# Altium footprint library HVPSlibrary.PcbLib: 149 footprints (part 9 of 11)
Each footprint in its own frame and in the unit in brackets; x right, y up, seen from the top. Pads: shape width x height; smd on the part's side, far side on the other; paste and mask are expansions set on the pad; w line width, h text height; cw(c..) or ccw(c..) is an arc to the next point about the centre after c.
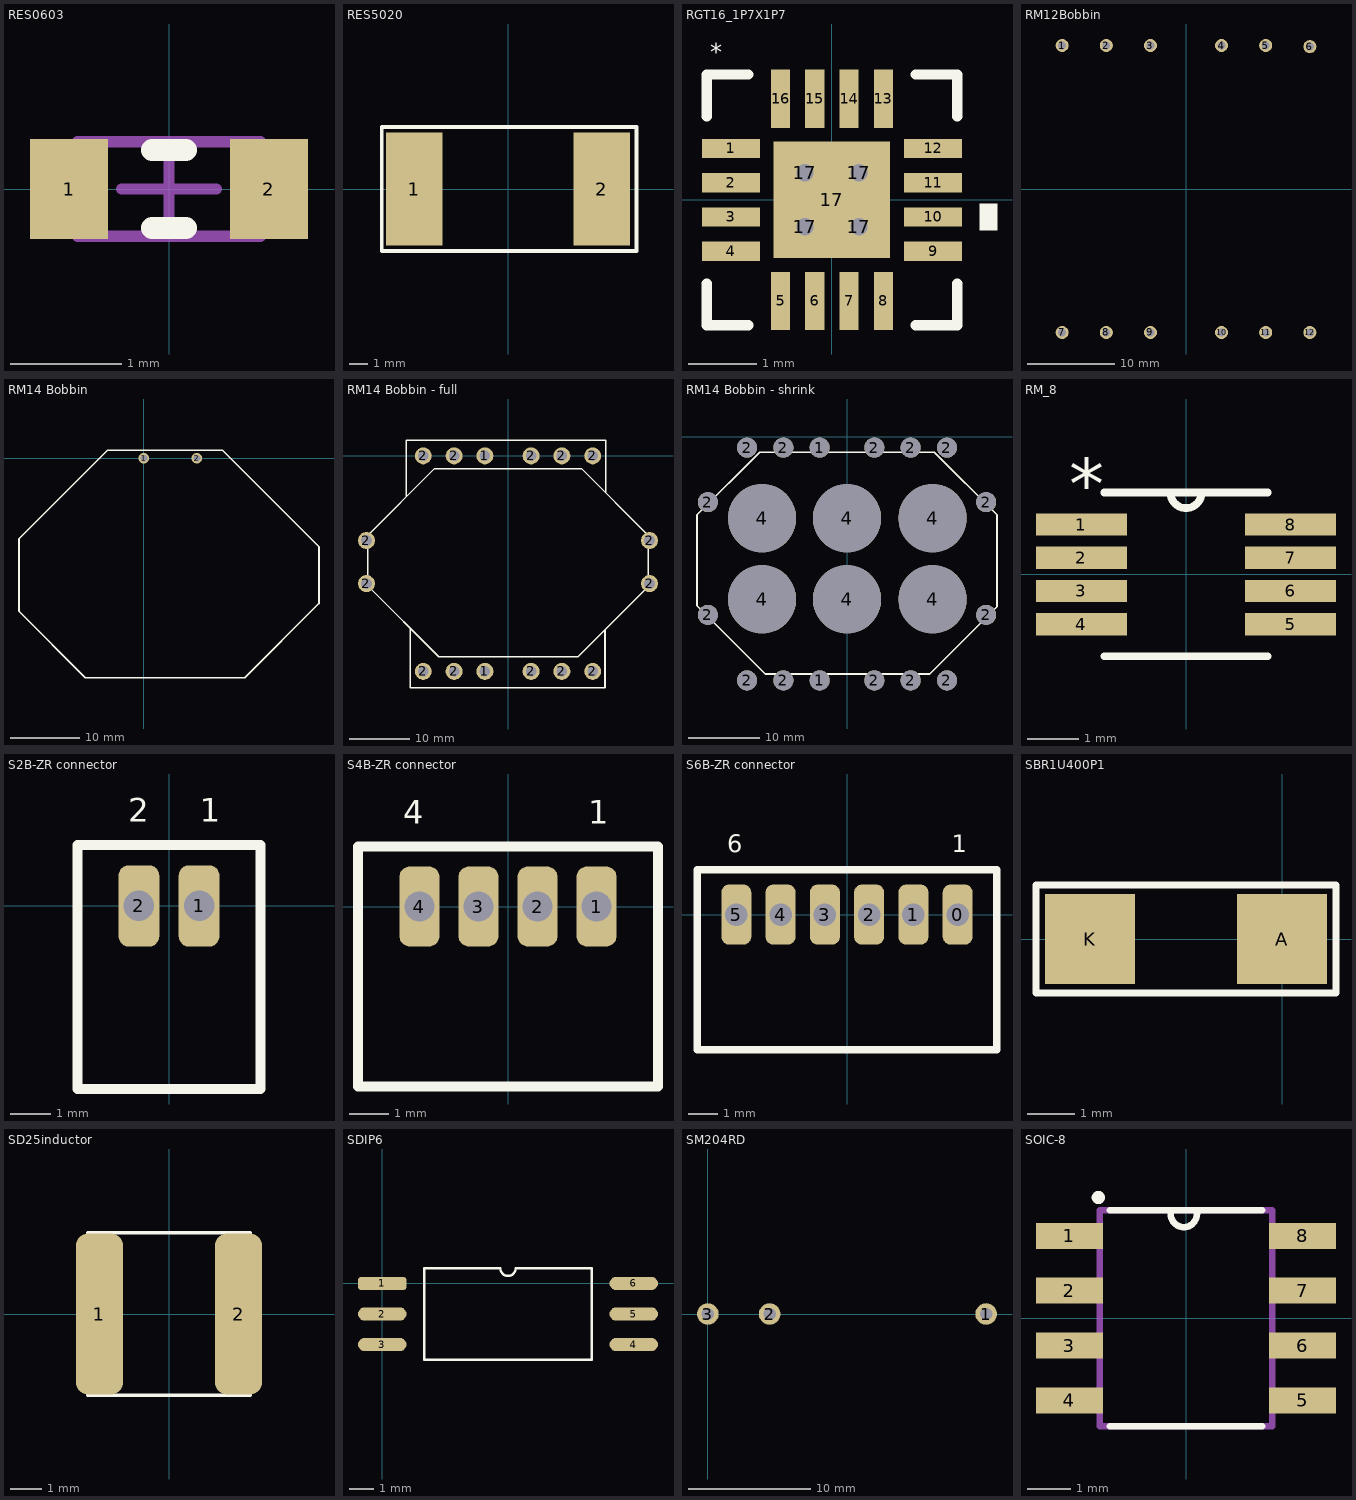
[diagram p8: the footprints below, top view; thin cyan lines are the x and y axes]

## RES0603 [mm] "Chip Resistor, 2-Leads, Body 1.6x0.8mm, IPC Medium Density"
height 0.8
pads (2):
  rect 0.7x0.9 smd: 1(-0.9,0) 2(0.9,0)
Top Overlay:
  lines w0.2: -0.15,-0.35 0.15,-0.35 ; -0.15,0.35 0.15,0.35
Mechanical 13:
  lines w0.1: -0.825,-0.425 0.825,-0.425 0.825,0.425 -0.825,0.425 -0.825,-0.425
Mechanical 15:
  lines w0.1: -0.425,0 0.425,0 ; 0,-0.425 0,0.425
3D body: height 0.8, standoff 0, extent -0.825,-0.425 0.825,0.425

## RES5020 [mm]
pads (2):
  rect 3x6 smd: 1(-5,0) 2(5,0)
Top Overlay:
  lines w0.2: -6.731,-3.302 -6.731,-0.731 -6.731,3.302 6.858,3.302 6.858,-3.302 -6.731,-3.302

## RGT16_1P7X1P7 [mm]
pads (21):
  rect 0.85x0.28 smd paste-0.14: 1(-1.475,0.75) 2(-1.475,0.25) 3(-1.475,-0.25) 4(-1.475,-0.75) 9(1.475,-0.75) 10(1.475,-0.25) 11(1.475,0.25) 12(1.475,0.75)
  rect 0.28x0.85 smd paste-0.14: 5(-0.75,-1.475) 6(-0.25,-1.475) 7(0.25,-1.475) 8(0.75,-1.475) 13(0.75,1.475) 14(0.25,1.475) 15(-0.25,1.475) 16(-0.75,1.475)
  round 0.508 / inner round 1.524 / far side round 0.508 hole 0.254: 17(-0.394,-0.394) 17(-0.394,0.394) 17(0.394,-0.394) 17(0.394,0.394)
  rect 1.7x1.7 smd paste-0.837 mask-0.838: 17(0,0)
Top Overlay:
  region: 2.154,-0.059 2.408,-0.059 2.408,-0.44 2.154,-0.44
  lines w0.152: -1.829,-1.223 -1.829,-1.829 -1.223,-1.829 ; -1.829,1.223 -1.829,1.829 -1.223,1.829 ; 1.223,-1.829 1.829,-1.829 1.829,-1.223 ; 1.223,1.829 1.829,1.829 1.829,1.223
  text "*" at -1.778,2.032 h0.25
Top Paste:
  region: -1.075,0.865 -1.875,0.865 -1.875,0.635 -1.075,0.635
  region: -1.075,0.365 -1.875,0.365 -1.875,0.135 -1.075,0.135
  region: -1.075,-0.135 -1.875,-0.135 -1.875,-0.365 -1.075,-0.365
  region: -1.075,-0.635 -1.875,-0.635 -1.875,-0.865 -1.075,-0.865
  region: -0.635,-1.075 -0.865,-1.075 -0.865,-1.875 -0.635,-1.875
  region: -0.135,-1.075 -0.365,-1.075 -0.365,-1.875 -0.135,-1.875
  region: 0.365,-1.075 0.135,-1.075 0.135,-1.875 0.365,-1.875
  region: 0.865,-1.075 0.635,-1.075 0.635,-1.875 0.865,-1.875
  region: 1.875,-0.635 1.075,-0.635 1.075,-0.865 1.875,-0.865
  region: 1.875,-0.135 1.075,-0.135 1.075,-0.365 1.875,-0.365
  region: 1.875,0.365 1.075,0.365 1.075,0.135 1.875,0.135
  region: 1.875,0.865 1.075,0.865 1.075,0.635 1.875,0.635
  region: 0.865,1.875 0.635,1.875 0.635,1.075 0.865,1.075
  region: 0.365,1.875 0.135,1.875 0.135,1.075 0.365,1.075
  region: -0.135,1.875 -0.365,1.875 -0.365,1.075 -0.135,1.075
  region: -0.635,1.875 -0.865,1.875 -0.865,1.075 -0.635,1.075
  region: -0.494,0.775 -0.775,0.775 -0.775,0.494 -0.635,0.494 -0.494,0.635
  region: -0.635,0.294 -0.775,0.294 -0.775,-0.294 -0.635,-0.294 -0.494,-0.152 -0.494,0.152
  region: -0.635,-0.494 -0.775,-0.494 -0.775,-0.775 -0.494,-0.775 -0.494,-0.635
  region: 0.294,0.775 -0.294,0.775 -0.294,0.635 -0.152,0.494 0.152,0.494 0.294,0.635
  region: 0.152,0.294 -0.152,0.294 -0.294,0.152 -0.294,-0.152 -0.152,-0.294 0.152,-0.294 0.294,-0.152 0.294,0.152
  region: 0.152,-0.494 -0.152,-0.494 -0.294,-0.635 -0.294,-0.775 0.294,-0.775 0.294,-0.635
  region: 0.775,0.775 0.494,0.775 0.494,0.635 0.635,0.494 0.775,0.494
  region: 0.775,0.294 0.635,0.294 0.494,0.152 0.494,-0.152 0.635,-0.294 0.775,-0.294
  region: 0.775,-0.494 0.635,-0.494 0.494,-0.635 0.494,-0.775 0.775,-0.775
Top Solder:
  region: -0.98,0.96 -1.97,0.96 -1.97,0.54 -0.98,0.54
  region: -0.98,0.46 -1.97,0.46 -1.97,0.04 -0.98,0.04
  region: -0.98,-0.04 -1.97,-0.04 -1.97,-0.46 -0.98,-0.46
  region: -0.98,-0.54 -1.97,-0.54 -1.97,-0.96 -0.98,-0.96
  region: -0.541,-0.98 -0.96,-0.98 -0.96,-1.97 -0.541,-1.97
  region: -0.04,-0.98 -0.46,-0.98 -0.46,-1.97 -0.04,-1.97
  region: 0.46,-0.98 0.04,-0.98 0.04,-1.97 0.46,-1.97
  region: 0.96,-0.98 0.541,-0.98 0.541,-1.97 0.96,-1.97
  region: 1.97,-0.54 0.98,-0.54 0.98,-0.96 1.97,-0.96
  region: 1.97,-0.04 0.98,-0.04 0.98,-0.46 1.97,-0.46
  region: 1.97,0.46 0.98,0.46 0.98,0.04 1.97,0.04
  region: 1.97,0.96 0.98,0.96 0.98,0.54 1.97,0.54
  region: 0.96,1.97 0.541,1.97 0.541,0.98 0.96,0.98
  region: 0.46,1.97 0.04,1.97 0.04,0.98 0.46,0.98
  region: -0.04,1.97 -0.46,1.97 -0.46,0.98 -0.04,0.98
  region: -0.541,1.97 -0.96,1.97 -0.96,0.98 -0.541,0.98
  region: -0.914,0.594 -0.914,0.914 0.914,0.914 0.914,0.594
  region: -0.914,-0.194 -0.914,0.194 0.914,0.194 0.914,-0.194
  region: -0.914,-0.914 -0.914,-0.594 0.914,-0.594 0.914,-0.914
  region: -0.914,-0.914 -0.914,0.914 -0.594,0.914 -0.594,-0.914
  region: 0.194,-0.914 0.194,0.914 -0.194,0.914 -0.194,-0.914
  region: 0.594,-0.914 0.594,0.914 0.914,0.914 0.914,-0.914
3D body: height 1, standoff 0, extent -1.626,-1.626 1.524,1.524

## RM12Bobbin [mm]
pads (12):
  round 1.5 hole 0.9: 1(-14.25,16.51) 2(-9.17,16.51) 3(-4.09,16.51) 4(4.09,16.51) 5(9.17,16.51) 6(14.25,16.383) 7(-14.25,-16.5) 8(-9.17,-16.5) 9(-4.09,-16.5) 10(4.09,-16.5) 11(9.17,-16.5) 12(14.25,-16.5)

## RM14 Bobbin [mil]
pads (2):
  round 60 hole 39.37: 1(0,0) 2(300,0)
Top Overlay:
  lines w10: -705,-865 -705,-455 -205,45 445,45 990,-500 990,-820 570,-1240 -330,-1240 -705,-865
3D body "RM14_ferrite.STEP": height 1181.1, standoff 0, extent -680.71,-1209.1 980.71,35

## RM14 Bobbin - full [mm]
pads (16):
  round 2.8 hole 1.75: 1(-3.81,-35.56) 1(-3.81,0) 2(-23.35,-21.07) 2(-23.35,-13.97) 2(-13.97,-35.56) 2(-13.97,0) 2(-8.89,-35.56) 2(-8.89,0) 2(3.81,-35.56) 2(3.81,0) 2(8.89,-35.56) 2(8.89,0) 2(13.97,-35.56) 2(13.97,0) 2(23.35,-21.07) 2(23.35,-13.97)
Top Overlay:
  lines w0.254: -16.764,-6.731 -16.764,2.54 16.129,2.54 16.129,-5.969 ; -16.129,-28.448 -16.129,-38.227 16.002,-38.227 16.002,-28.702 ; -23.114,-21.463 -23.114,-13.081 -12.192,-2.159 12.192,-2.159 23.114,-13.081 23.114,-21.59 11.557,-33.147 -11.43,-33.147 -23.114,-21.463
3D body "RM14_assemble_SelfMade.STEP": height 29.98, standoff -3.92, extent -21.1,-38.46 21.1,2.54

## RM14 Bobbin - shrink [mm]
pads (22):
  round 2.8 hole 2.8: 1(-3.81,-34.036) 1(-3.81,-1.524) 2(-19.431,-24.892) 2(-19.431,-9.144) 2(-13.97,-34.036) 2(-13.97,-1.524) 2(-8.89,-34.036) 2(-8.89,-1.524) 2(3.81,-34.036) 2(3.81,-1.524) 2(8.89,-34.036) 2(8.89,-1.524) 2(13.97,-34.036) 2(13.97,-1.524) 2(19.431,-24.892) 2(19.431,-9.144)
  round 9.525 hole 9.525: 4(-11.862,-22.708) 4(-11.862,-11.379) 4(0,-22.708) 4(0,-11.379) 4(11.963,-22.708) 4(11.963,-11.379)
Top Overlay:
  lines w0.254: -20.955,-23.622 -20.955,-10.922 -12.192,-2.159 12.192,-2.159 20.955,-10.922 20.955,-23.749 11.557,-33.147 -11.43,-33.147 -20.955,-23.622
3D body "RM14_assemble_SelfMade.STEP": height 29.98, standoff -3.92, extent -21.1,-38.46 21.1,2.54

## RM_8 [mil]
pads (8):
  rect 70x17 smd: 1(-80.5,38.39) 2(-80.5,12.8) 3(-80.5,-12.8) 4(-80.5,-38.39) 5(80.5,-38.39) 6(80.5,-12.8) 7(80.5,12.8) 8(80.5,38.39)
Top Overlay:
  lines w6: -63,-63 63,-63 ; -63,63 63,63 ; -12,63 ccw(c0,63) 12,63
  text "*" at -90,50 h39.37
Mechanical 13:
  lines w0: -12,63 ccw(c0,63) 12,63
3D body: height 43.31, standoff 0, extent -65,-65 65,65

## S2B-ZR connector [mil] "2 pin JST ZH connector"
pads (2):
  rrect50% 40x80 hole 30: 1(29.53,0) 2(-29.53,0)
Top Overlay:
  lines w10: -90,-180 -90,60 90,60 90,-180 -90,-180
  text "2" at -40,75 h40
  text "1" at 30,75 h40
Bottom Overlay:
  lines w10: -90,-180 -90,60 90,60 90,-180 -90,-180
  text "2" at -40,75 h40
  text "1" at 30,75 h40
3D body "02ZR-8M-P.STEP": height 141.73, standoff 19.68, extent -87.16,-210 90,-36.77
3D body "S2B-ZR.STEP": height 157.48, standoff -94.49, extent -87.16,-183.11 90,53.11

## S4B-ZR connector [mil] "4 pin JST ZH connector"
pads (4):
  rrect50% 40x80 hole 30: 1(88.58,0) 2(29.53,0) 3(-29.53,0) 4(-88.58,0)
Top Overlay:
  lines w10: -150,-180 -150,60 150,60 150,-180 -150,-180
  text "4" at -105,75 h40
  text "1" at 80,75 h40
Bottom Overlay:
  lines w10: -150,-180 -150,60 150,60 150,-180 -150,-180
  text "4" at -105,75 h40
  text "1" at 80,75 h40
3D body "04ZR-8M-P.STEP": height 141.73, standoff 19.68, extent -150.28,-211.61 145,-38.39
3D body "S4B-ZR.STEP": height 157.48, standoff -94.49, extent -147.64,-180 147.64,56.22

## S6B-ZR connector [mil] "6pin JST ZH connector"
pads (6):
  rrect50% 40x80 hole 30: 0(147.64,0) 1(88.58,0) 2(29.53,0) 3(-29.53,0) 4(-88.58,0) 5(-147.64,0)
Top Overlay:
  lines w10: -200,-180 -200,60 200,60 200,-180 -200,-180
  text "1" at 140,75 h40
  text "6" at -160,75 h40
Bottom Overlay:
  lines w10: -200,-180 -200,60 200,60 200,-180 -200,-180
  text "1" at 140,75 h40
  text "6" at -160,75 h40
3D body "06ZR-8M-P.STEP": height 141.73, standoff 19.68, extent -206.69,-218.23 206.7,-45
3D body "S6B-ZR.STEP": height 157.48, standoff -94.49, extent -206.69,-185 206.69,51.22

## SBR1U400P1 [mil]
pads (2):
  rect 75x75 smd: A(0,0) K(-160,0)
Top Overlay:
  lines w6: -205,-45 -205,45 45,45 45,-45 -205,-45

## SD25inductor [mm] "http://www.cooperindustries.com/content/dam/public/bussmann/Electronics/Resources/product-datasheets/BUS_Elx_PM_4311_SD_Series_High_Power_Density.pdf"
pads (2):
  rrect50% 1.5x5.15 smd: 1(-2.225,0) 2(2.225,0)
Top Overlay:
  lines w0.1: -2.6,-2.6 2.6,-2.6 2.6,2.6 -2.6,2.6 -2.6,-2.6

## SDIP6 [mm]
pads (6):
  rrect50% 2.02x0.55 smd: 1(0,0)
  oval 2.02x0.55 smd: 2(0,-1.27) 3(0,-2.54) 4(10.47,-2.54) 5(10.47,-1.27) 6(10.47,0)
Top Overlay:
  lines w0.1: 1.745,-3.175 1.745,0.635 4.917,0.635 ccw(c5.235,0.635) 5.552,0.635 8.725,0.635 8.725,-3.175 1.745,-3.175

## SM204RD [mil] "Ohmite resistor divider SM204RD"
pads (3):
  round 70 hole 40: 1(900,0) 2(200,0) 3(0,0)

## SOIC-8 [mm]
pads (8):
  rect 1.55x0.6 smd: 1(-2.7,1.905) 2(-2.7,0.635) 3(-2.7,-0.635) 4(-2.7,-1.905) 5(2.7,-1.905) 6(2.7,-0.635) 7(2.7,0.635) 8(2.7,1.905)
Top Overlay:
  circle w0.152: c-2.032,2.794 r0.076
  lines w0.152: -1.769,-2.502 1.769,-2.502 ; -1.769,2.502 1.769,2.502 ; -0.356,2.413 ccw(c-0.051,2.413) 0.254,2.413
Mechanical 1:
  lines w0.152: -1.994,-2.502 -1.994,2.502 1.994,2.502 1.994,-2.502 -1.994,-2.502
3D body: height 1.75, standoff 0, extent -1.994,-2.502 1.994,2.502